# EAGLE library part HFA1100IBZ (library Intersil_By_element14_Batch_1)
Low Distortion Current Feedback Operational Amplifiers
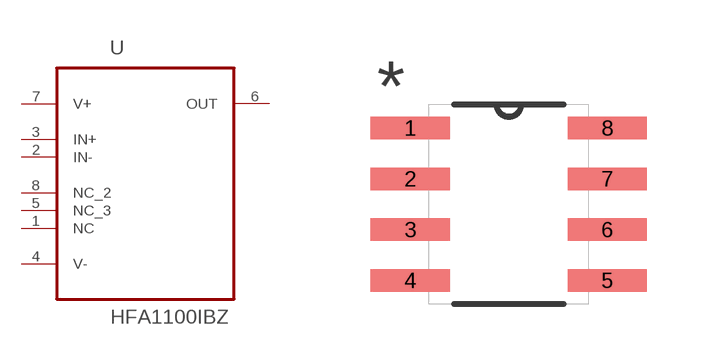
[diagram p106: symbol with the pads of SOIC127P600X175-8N; footprint SOIC127P600X175-8N]

Designator prefix U

## HFA1100IBZ (MPN: HFA1100IBZ; OC_FARNELL: 1561932; OC_NEWARK: 57K3780; PACKAGE: SOIC-8; SUPPLIER: INTERSIL)  [SOIC127P600X175-8N]
1  NC  nc
2  IN-  in
3  IN+  in
4  V-  pwr
5  NC_3  nc
6  OUT  out
7  V+  pwr
8  NC_2  nc

## Footprint SOIC127P600X175-8N (pad centres in mm)
smd 1.981 x 0.559: 1 -2.464,1.905; 2 -2.464,0.635; 3 -2.464,-0.635; 4 -2.464,-1.905; 5 2.464,-1.905; 6 2.464,-0.635; 7 2.464,0.635; 8 2.464,1.905